# Altium schematic symbol library Pentagon.SchLib: 51 symbols
Pins are listed as number, name and electrical type; pins without a type are passive.

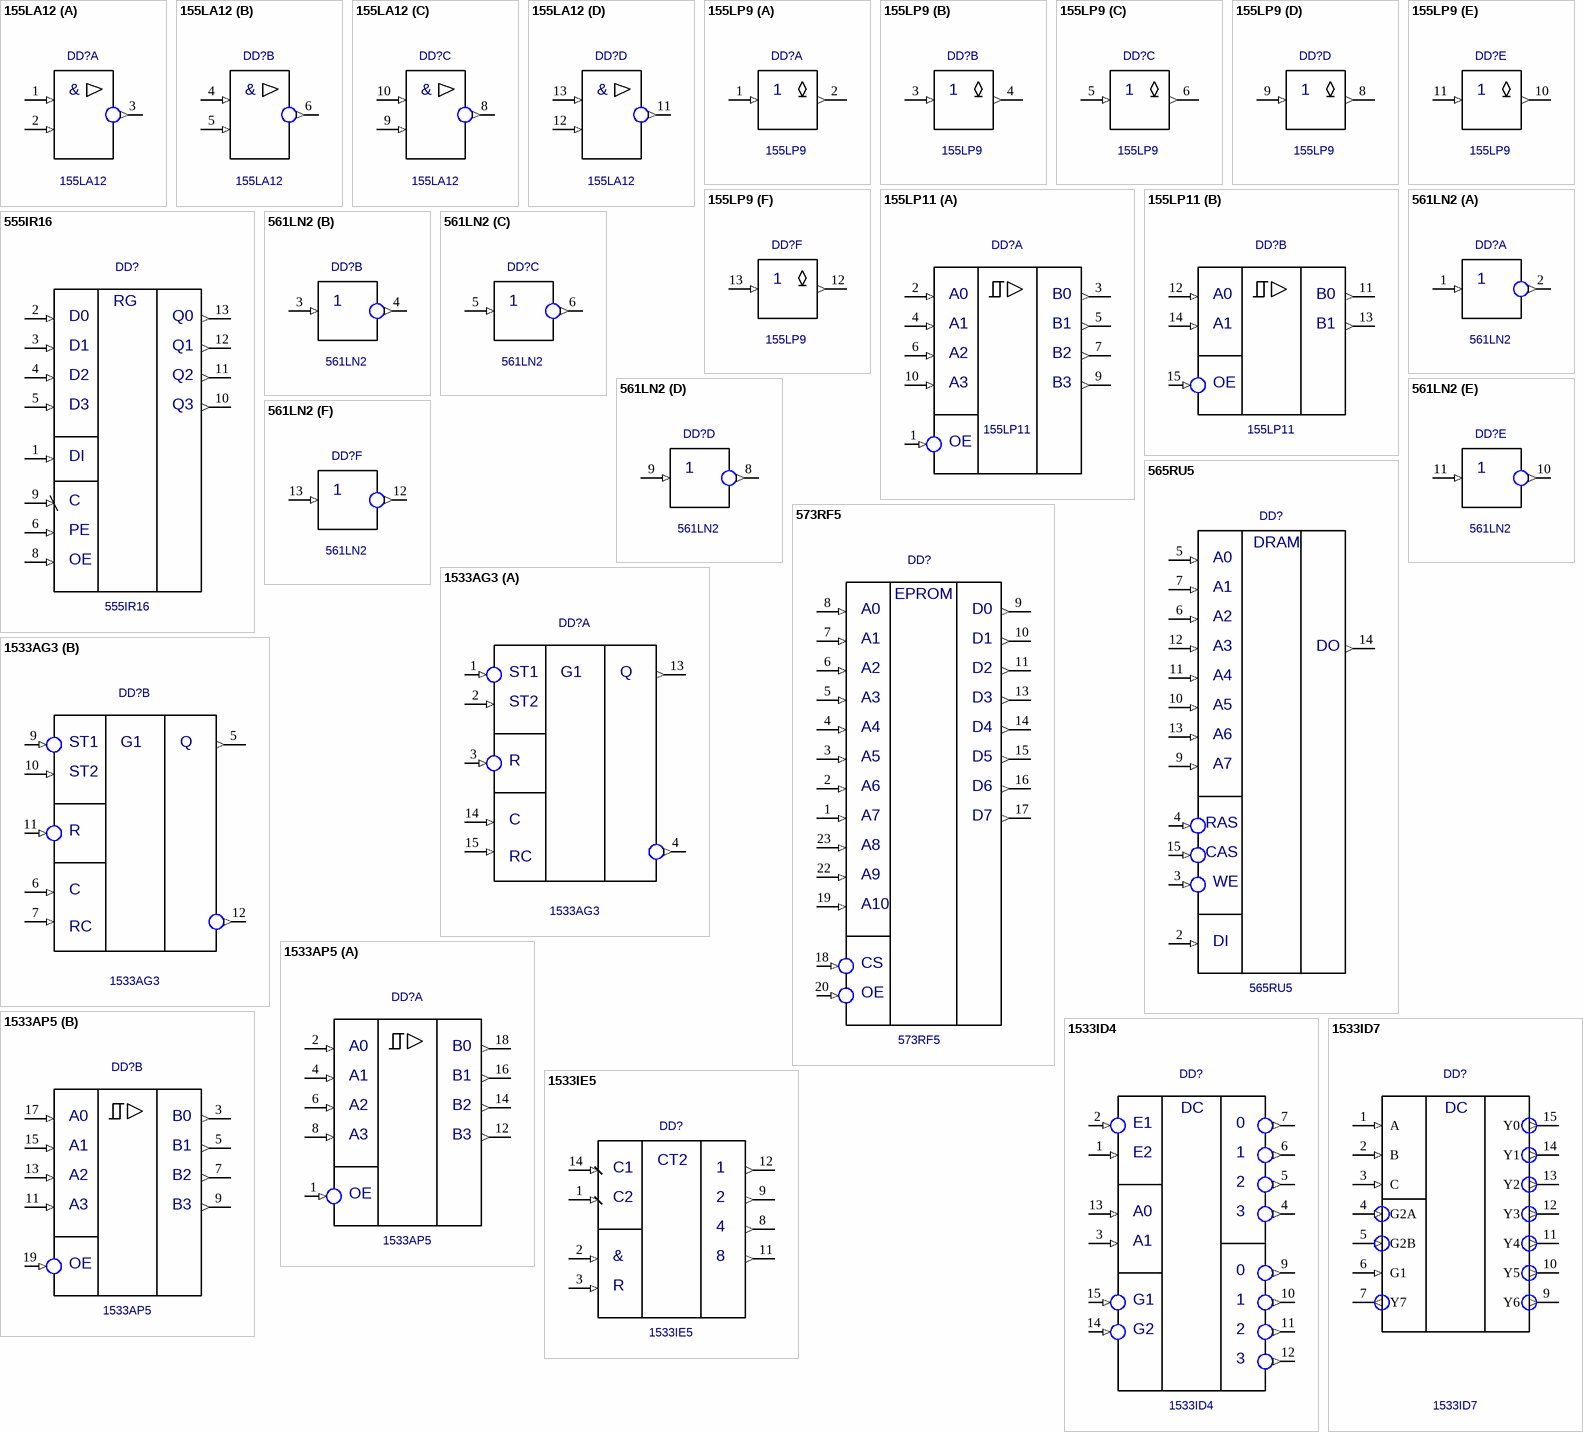
[diagram p0: symbols 155LA12 to 1533IE5]

## 155LA12
designator DD?
Value: *
footprint DIP14
pins on every part: 7 GND (power) hidden, 14 +5V (power) hidden
part A pins: 1 A (in), 2 B (in), 3 C (out)
part B pins: 4 A (in), 5 B (in), 6 C (out)
part C pins: 8 C (out), 9 B (in), 10 A (in)
part D pins: 11 C (out), 12 B (in), 13 A (in)
part A text: &
part B text: &
part C text: &
part D text: &

## 155LP9
designator DD?
Value: *
footprint DIP14
pins on every part: 7 GND (power) hidden, 14 +5V (power) hidden
part A pins: 1 A (in), 2 B (out)
part B pins: 3 A (in), 4 B (out)
part C pins: 5 A (in), 6 B (out)
part D pins: 8 B (out), 9 A (in)
part E pins: 10 B (out), 11 A (in)
part F pins: 12 B (out), 13 A (in)

## 155LP11
designator DD?
Value: *
footprint DIP16
pins on every part: 8 GND (power) hidden, 16 +5V (power) hidden
part A pins: 1 OE (in), 2 A0 (in), 3 B0 (out), 4 A1 (in), 5 B1 (out), 6 A2 (in), 7 B2 (out), 9 B3 (out), 10 A3 (in)
part B pins: 11 B10 (out), 12 A10 (in), 13 B11 (out), 14 A11 (in), 15 OE1 (in)

## 555IR16
designator DD?
Value: *
footprint DIP14
pins: 1 DI (in), 2 D0 (in), 3 D1 (in), 4 D2 (in), 5 D3 (in), 6 PE (in), 7 GND (power) hidden, 8 OE (in), 9 C (in), 10 Q3 (out), 11 Q2 (out), 12 Q1 (out), 13 Q0 (out), 14 +5V (power) hidden
text: RG

## 561LN2
designator DD?
Value: *
footprint DIP14
pins on every part: 7 GND (power) hidden, 14 +5V (power) hidden
part A pins: 1 A (in), 2 B (out)
part B pins: 3 A (in), 4 B (out)
part C pins: 5 A (in), 6 B (out)
part D pins: 8 B (out), 9 A (in)
part E pins: 10 B (out), 11 A (in)
part F pins: 12 B (out), 13 A (in)

## 565RU5
designator DD?
Value: *
footprint DIP16
pins: 1 hidden, 2 DI (in), 3 WE (in), 4 RAS (in), 5 A0 (in), 6 A2 (in), 7 A1 (in), 8 +5V (power) hidden, 9 A7 (in), 10 A5 (in), 11 A4 (in), 12 A3 (in), 13 A6 (in), 14 DO (out), 15 CAS (in), 16 GND (power) hidden
text: DRAM

## 573RF5
designator DD?
Value: *
footprint DIP24_15
pins: 1 A7 (in), 2 A6 (in), 3 A5 (in), 4 A4 (in), 5 A3 (in), 6 A2 (in), 7 A1 (in), 8 A0 (in), 9 D0 (out), 10 D1 (out), 11 D2 (out), 12 GND (power) hidden, 13 D3 (out), 14 D4 (out), 15 D5 (out), 16 D6 (out), 17 D7 (out), 18 CS (in), 19 A10 (in), 20 OE (in), 21 +5V (power) hidden, 22 A9 (in), 23 A8 (in), 24 +5V (power) hidden
text: EPROM

## 1533AG3
designator DD?
Value: *
footprint DIP16
pins on every part: 8 GND (power) hidden, 16 +5V (power) hidden
part A pins: 1 ST1 (in), 2 ST2 (in), 3 R (in), 4 Q/ (out), 13 Q (out), 14 C (in), 15 RC (in)
part B pins: 5 Q (out), 6 C (in), 7 RC (in), 9 ST1 (in), 10 ST2 (in), 11 R (in), 12 Q/ (out)
part A text: G1
part B text: G1

## 1533AP5
designator DD?
Value: *
footprint DIP20
pins on every part: 10 GND (power) hidden, 20 +5V (power) hidden
part A pins: 1 OE (in), 2 A0 (in), 4 A1 (in), 6 A2 (in), 8 A3 (in), 12 B3 (out), 14 B2 (out), 16 B1 (out), 18 B0 (out)
part B pins: 3 B0 (out), 5 B1 (out), 7 B2 (out), 9 B3 (out), 11 A3 (in), 13 A2 (in), 15 A1 (in), 17 A0 (in), 19 OE (in)

## 1533ID4
designator DD?
Value: *
footprint DIP16
pins: 1 E2 (in), 2 E1 (in), 3 A1 (in), 4 Q3 (out), 5 Q2 (out), 6 Q1 (out), 7 Q0 (out), 8 GND (power) hidden, 9 Q4 (out), 10 Q5 (out), 11 Q6 (out), 12 Q7 (out), 13 A0 (in), 14 G2 (in), 15 G1 (in), 16 +5V (power) hidden
text: DC; 0

## 1533ID7
designator DD?
Value: *
footprint DIP16
pins: 1 A (in), 2 B (in), 3 C (in), 4 G2A (in), 5 G2B (in), 6 G1 (in), 7 Y7 (out), 8 GND (power) hidden, 9 Y6 (out), 10 Y5 (out), 11 Y4 (out), 12 Y3 (out), 13 Y2 (out), 14 Y1 (out), 15 Y0 (out), 16 +5V (power) hidden
text: DC

## 1533IE5
designator DD?
Value: *
footprint DIP14
pins: 1 C2 (in), 2 & (in), 3 R (in), 4 hidden, 5 +5V (power) hidden, 6 hidden, 7 hidden, 8 4 (out), 9 2 (out), 10 GND (power) hidden, 11 8 (out), 12 1 (out), 13 hidden, 14 C1 (in)
text: CT2

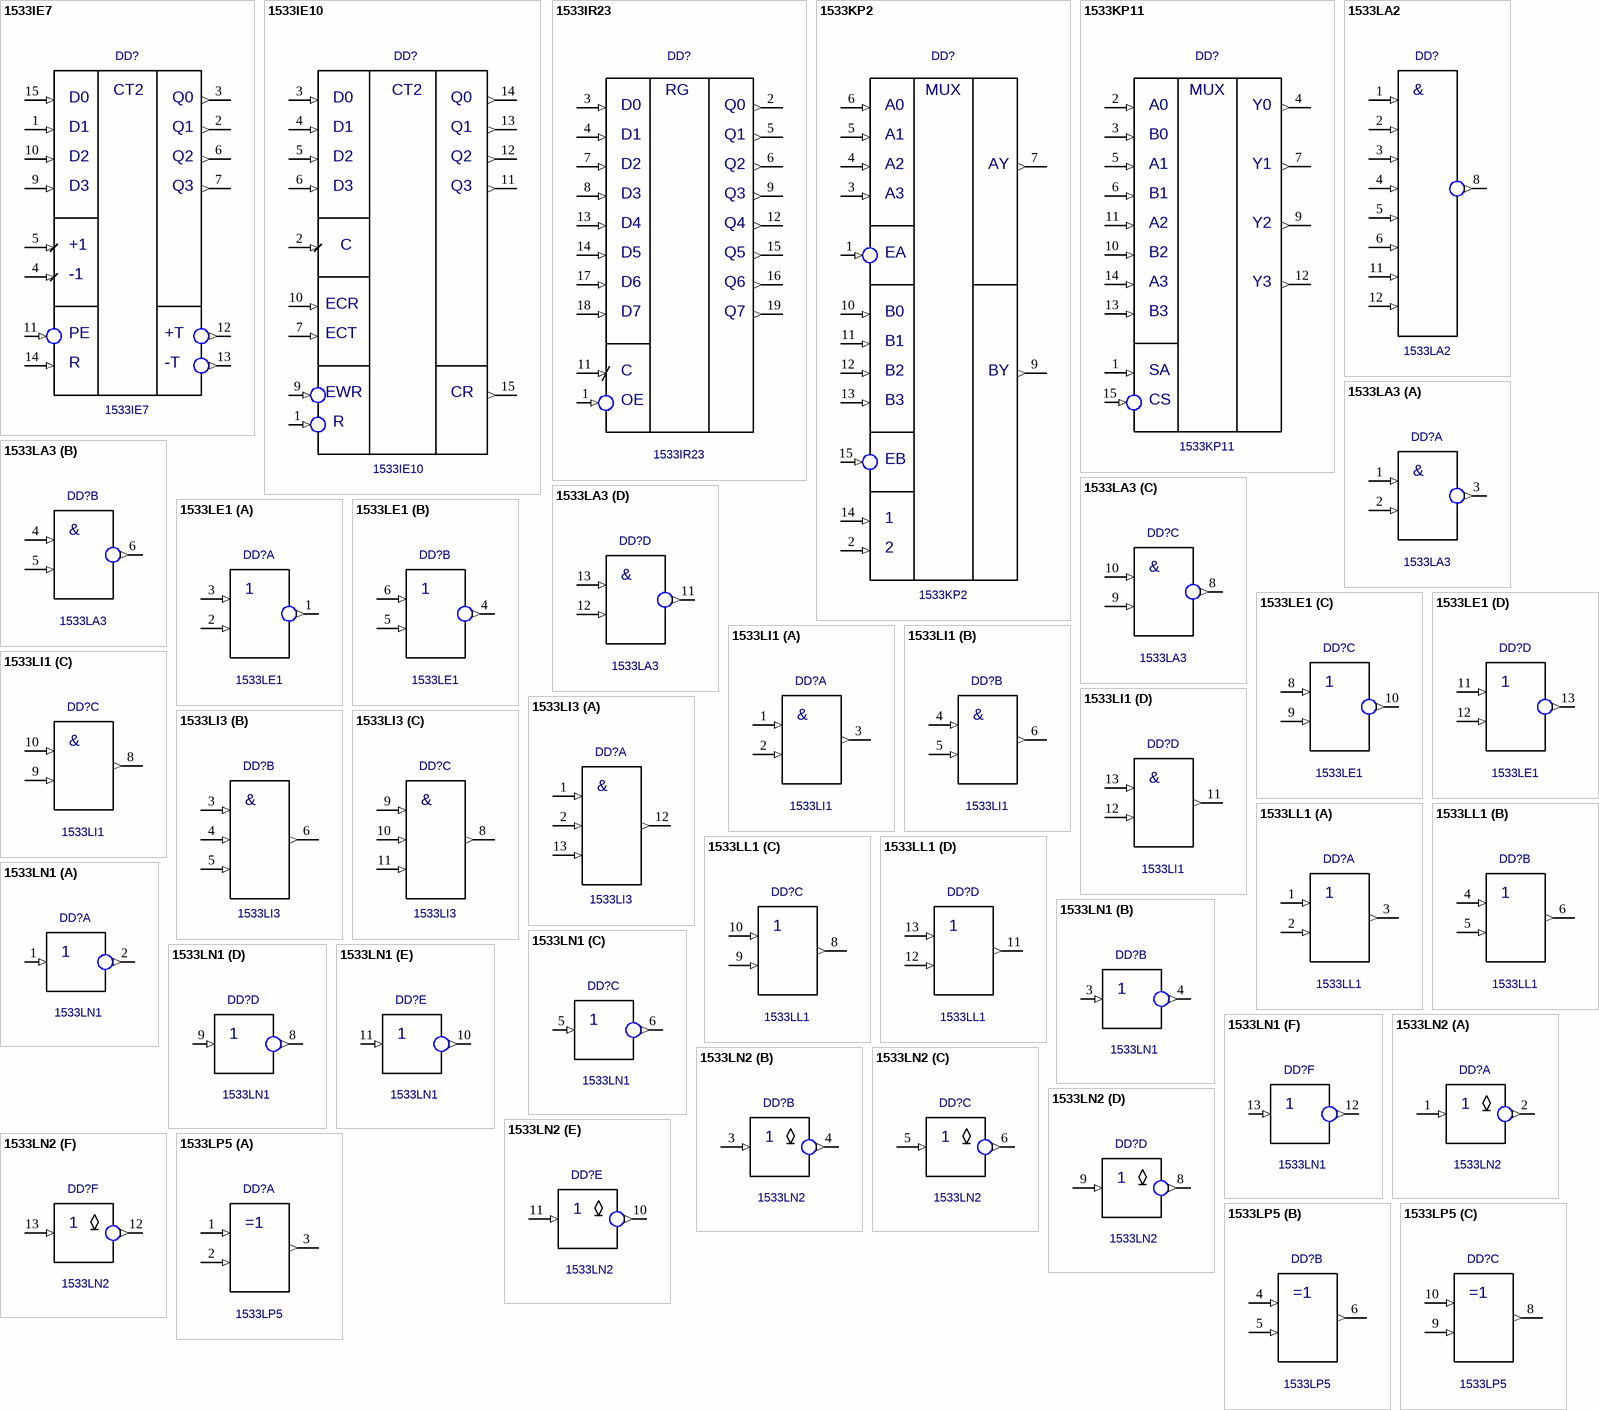
[diagram p1: symbols 1533IE7 to 1533LP5]

## 1533IE7
designator DD?
Value: *
footprint DIP16
pins: 1 D1 (in), 2 Q1 (out), 3 Q0 (out), 4 -1 (in), 5 +1 (in), 6 Q2 (out), 7 Q3 (out), 8 GND (power) hidden, 9 D3 (in), 10 D2 (in), 11 PE (in), 12 +T (out), 13 -T (out), 14 R (in), 15 D0 (in), 16 +5V (power) hidden
text: CT2

## 1533IE10
designator DD?
Value: *
footprint DIP16
pins: 1 R (in), 2 C (in), 3 D0 (in), 4 D1 (in), 5 D2 (in), 6 D3 (in), 7 ECT (in), 8 GND (power) hidden, 9 EWR (in), 10 ECR (in), 11 Q3 (out), 12 Q2 (out), 13 Q1 (out), 14 Q0 (out), 15 CR (out), 16 +5V (power) hidden
text: CT2

## 1533IR23
designator DD?
Value: *
footprint DIP20
pins: 1 OE (in), 2 Q0 (out), 3 D0 (in), 4 D1 (in), 5 Q1 (out), 6 Q2 (out), 7 D2 (in), 8 D3 (in), 9 Q3 (out), 10 GND (power) hidden, 11 C (in), 12 Q4 (out), 13 D4 (in), 14 D5 (in), 15 Q5 (out), 16 Q6 (out), 17 D6 (in), 18 D7 (in), 19 Q7 (out), 20 +5V (power) hidden
text: RG

## 1533KP2
designator DD?
Value: *
footprint DIP16
pins: 1 EA (in), 2 (in), 3 A3 (in), 4 A2 (in), 5 A1 (in), 6 A0 (in), 7 AY (out), 8 GND (power) hidden, 9 BY (out), 10 B0 (in), 11 B1 (in), 12 B2 (in), 13 B3 (in), 14 1 (in), 15 EB (in), 16 +5V (power) hidden
text: MUX

## 1533KP11
designator DD?
Value: *
footprint DIP16
pins: 1 SA (in), 2 A0 (in), 3 B0 (in), 4 Y0 (out), 5 A1 (in), 6 B1 (in), 7 Y1 (out), 8 GND (power) hidden, 9 Y2 (out), 10 B2 (in), 11 A2 (in), 12 Y3 (out), 13 B3 (in), 14 A3 (in), 15 CS (in), 16 +5V (power) hidden
text: MUX

## 1533LA2
designator DD?
Value: *
footprint DIP14
pins: 1 A (in), 2 B (in), 3 C (in), 4 D (in), 5 E (in), 6 F (in), 7 GND (power) hidden, 8 Y (out), 9 hidden, 10 hidden, 11 G (in), 12 H (in), 13 hidden, 14 +5V (power) hidden
text: &

## 1533LA3
designator DD?
Value: *
footprint DIP14
pins on every part: 7 GND (power) hidden, 14 +5V (power) hidden
part A pins: 1 A (in), 2 B (in), 3 C (out)
part B pins: 4 A (in), 5 B (in), 6 C (out)
part C pins: 8 C (out), 9 B (in), 10 A (in)
part D pins: 11 C (out), 12 B (in), 13 A (in)
part A text: &
part B text: &
part C text: &
part D text: &

## 1533LE1
designator DD?
Value: *
footprint DIP14
pins on every part: 7 GND (power) hidden, 14 +5V (power) hidden
part A pins: 1 C (out), 2 B (in), 3 A (in)
part B pins: 4 C (out), 5 B (in), 6 A (in)
part C pins: 8 A (in), 9 B (in), 10 C (out)
part D pins: 11 A (in), 12 B (in), 13 C (out)

## 1533LI1
designator DD?
Value: *
footprint DIP14
pins on every part: 7 GND (power) hidden, 14 +5V (power) hidden
part A pins: 1 A (in), 2 B (in), 3 C (out)
part B pins: 4 A (in), 5 B (in), 6 C (out)
part C pins: 8 C (out), 9 B (in), 10 A (in)
part D pins: 11 C (out), 12 B (in), 13 A (in)
part A text: &
part B text: &
part C text: &
part D text: &

## 1533LI3
designator DD?
Value: *
footprint DIP14
pins on every part: 7 GND (power) hidden, 14 +5V (power) hidden
part A pins: 1 A (in), 2 B (in), 12 D (out), 13 C (in)
part B pins: 3 A (in), 4 B (in), 5 C (in), 6 D (out)
part C pins: 8 D (out), 9 A (in), 10 B (in), 11 C (in)
part A text: &
part B text: &
part C text: &

## 1533LL1
designator DD?
Value: *
footprint DIP14
pins on every part: 7 GND (power) hidden, 14 +5V (power) hidden
part A pins: 1 A (in), 2 B (in), 3 C (out)
part B pins: 4 A (in), 5 B (in), 6 C (out)
part C pins: 8 C (out), 9 B (in), 10 A (in)
part D pins: 11 C (out), 12 B (in), 13 A (in)

## 1533LN1
designator DD?
Value: *
footprint DIP14
pins on every part: 7 GND (power) hidden, 14 +5V (power) hidden
part A pins: 1 A (in), 2 B (out)
part B pins: 3 A (in), 4 B (out)
part C pins: 5 A (in), 6 B (out)
part D pins: 8 B (out), 9 A (in)
part E pins: 10 B (out), 11 A (in)
part F pins: 12 B (out), 13 A (in)

## 1533LN2
designator DD?
Value: *
footprint DIP14
pins on every part: 7 GND (power) hidden, 14 +5V (power) hidden
part A pins: 1 A (in), 2 B (out)
part B pins: 3 A (in), 4 B (out)
part C pins: 5 A (in), 6 B (out)
part D pins: 8 B (out), 9 A (in)
part E pins: 10 B (out), 11 A (in)
part F pins: 12 B (out), 13 A (in)

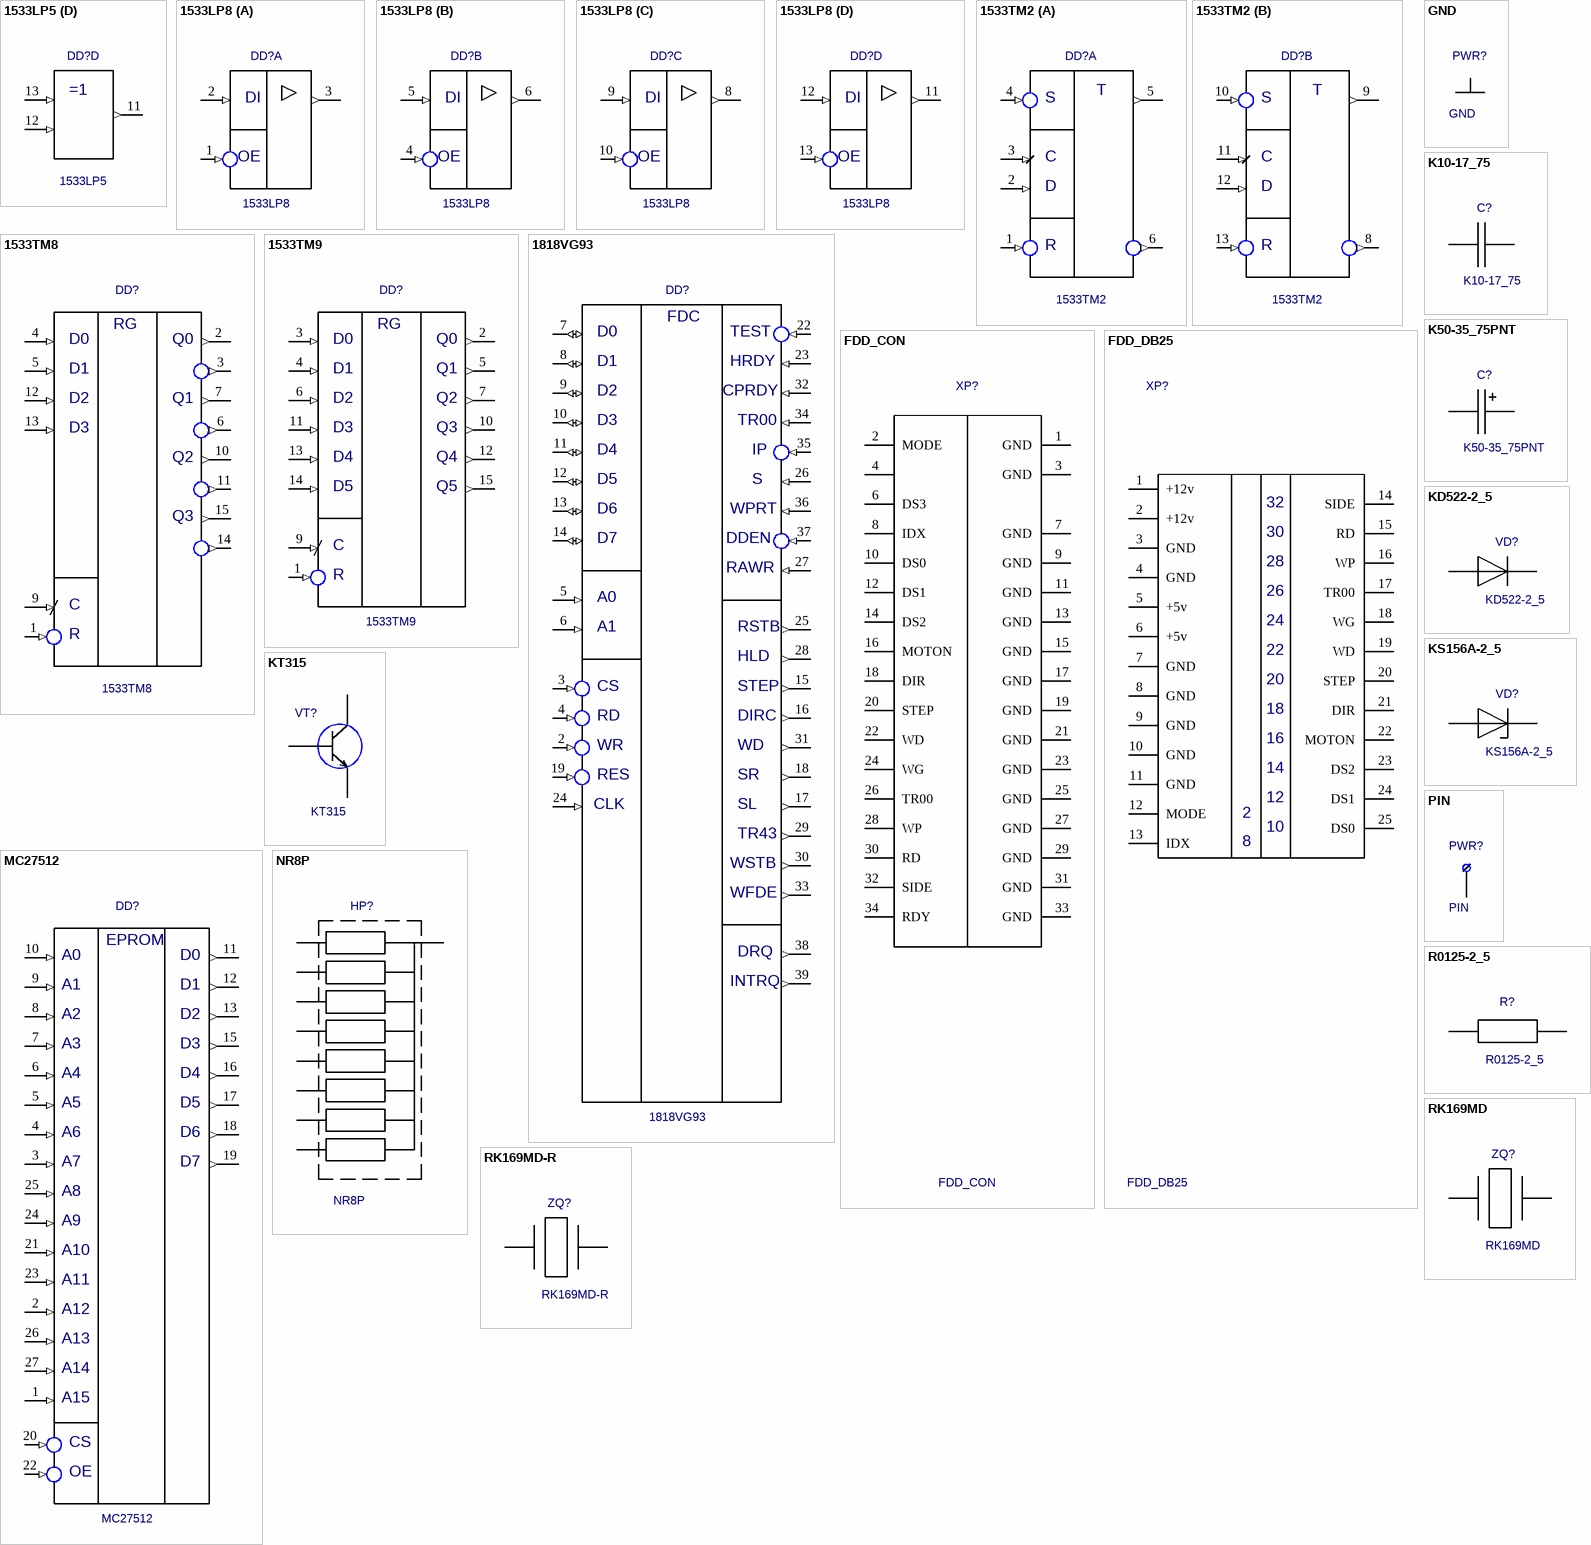
[diagram p2: symbols 1533LP5 to RK169MD-R]

## 1533LP5
designator DD?
Value: *
footprint DIP14
pins on every part: 7 GND (power) hidden, 14 +5V (power) hidden
part A pins: 1 A (in), 2 B (in), 3 C (out)
part B pins: 4 A (in), 5 B (in), 6 C (out)
part C pins: 8 C (out), 9 B (in), 10 A (in)
part D pins: 11 C (out), 12 B (in), 13 A (in)

## 1533LP8
designator DD?
Value: *
footprint DIP14
pins on every part: 7 GND (power) hidden, 14 +5V (power) hidden
part A pins: 1 B (in), 2 A (in), 3 C (out)
part B pins: 4 B (in), 5 A (in), 6 C (out)
part C pins: 8 C (out), 9 A (in), 10 B (in)
part D pins: 11 C (out), 12 A (in), 13 B (in)
part A text: DI; OE
part B text: DI; OE
part C text: DI; OE
part D text: DI; OE

## 1533TM2
designator DD?
Value: *
footprint DIP14
pins on every part: 7 GND (power) hidden, 14 +5V (power) hidden
part A pins: 1 R (in), 2 D (in), 3 C (in), 4 S (in), 5 Q (out), 6 Q/ (out)
part B pins: 8 Q/ (out), 9 Q (out), 10 S (in), 11 C (in), 12 D (in), 13 R (in)
part A text: T
part B text: T

## 1533TM8
designator DD?
Value: *
footprint DIP16
pins: 1 R (in), 2 Q0 (out), 3 Q0/ (out), 4 D0 (in), 5 D1 (in), 6 Q1/ (out), 7 Q1 (out), 8 GND (power) hidden, 9 C (in), 10 Q2 (out), 11 Q2/ (out), 12 D2 (in), 13 D3 (in), 14 Q4/ (out), 15 Q4 (out), 16 +5V (power) hidden
text: RG; Q3

## 1533TM9
designator DD?
Value: *
footprint DIP16
pins: 1 R (in), 2 Q0 (out), 3 D0 (in), 4 D1 (in), 5 Q1 (out), 6 D2 (in), 7 Q2 (out), 8 GND (power) hidden, 9 C (in), 10 Q3 (out), 11 D3 (in), 12 Q4 (out), 13 D4 (in), 14 D5 (in), 15 Q5 (out), 16 +5V (power) hidden
text: RG

## 1818VG93
designator DD?
Value: *
footprint DIP40_15
pins: 1 hidden, 2 WR (in), 3 CS (in), 4 RD (in), 5 A0 (in), 6 A1 (in), 7 D0 (io), 8 D1 (io), 9 D2 (io), 10 D3 (io), 11 D4 (io), 12 D5 (io), 13 D6 (io), 14 D7 (io), 15 STEP (out), 16 DIRC (out), 17 SL (out), 18 SR (out), 19 RES (in), 20 GND (power) hidden, 21 +5V (power) hidden, 22 TEST (in), 23 HRDY (in), 24 CLK (in), 25 RSTB (out), 26 S (in), 27 RAWR (in), 28 HLD (out), 29 TR43 (out), 30 WSTB (out), 31 WD (out), 32 CPRDY (in), 33 WFDE (out), 34 TR00 (in), 35 IP (in), 36 WPRT (in), 37 DDEN (in), 38 DRQ (out), 39 INTRQ (out), 40 +12V (power) hidden
text: FDC

## FDD_CON
designator XP?
Value: *
footprint FDD_CON_Male
pins: 1 GND, 2 MODE, 3 GND, 4, 6 DS3, 7 GND, 8 IDX, 9 GND, 10 DS0, 11 GND, 12 DS1, 13 GND, 14 DS2, 15 GND, 16 MOTON, 17 GND, 18 DIR, 19 GND, 20 STEP, 21 GND, 22 WD, 23 GND, 24 WG, 25 GND, 26 TR00, 27 GND, 28 WP, 29 GND, 30 RD, 31 GND, 32 SIDE, 33 GND, 34 RDY

## FDD_DB25
designator XP?
Value: *
footprint DSUB1.385-2H25A (Connector; D Subminiature; 25 Position; Right Angle; Pitch 1.385 mm)
pins: 1 +12v, 2 +12v, 3 GND, 4 GND, 5 +5v, 6 +5v, 7 GND, 8 GND, 9 GND, 10 GND, 11 GND, 12 MODE, 13 IDX, 14 SIDE, 15 RD, 16 WP, 17 TR00, 18 WG, 19 WD, 20 STEP, 21 DIR, 22 MOTON, 23 DS2, 24 DS1, 25 DS0, 26 hidden, 27 hidden, 28 hidden, 29 hidden, 30 hidden, 31 hidden, 32 hidden, 33 hidden, 34 hidden, 35 hidden, 36 hidden, 37 hidden, 38 hidden, 39 hidden, 40 hidden, 41 hidden, 42 hidden, 43 hidden, 44 hidden, 45 hidden, 46 hidden, 47 hidden, 48 hidden, 49 hidden, 50 hidden

## GND
designator PWR?
Value: *
pins: 1 GND (power)

## K10-17_75
designator C?
Value: *
footprint K10-17_75
pins: 1 A, 2 B

## K50-35_75PNT
designator C?
Value: *
footprint K50-35_75PNT
pins: 1 A, 2 B

## KD522-2_5
designator VD?
Value: *
footprint KD522-2_5
pins: 1 A, 2 B

## KS156A-2_5
designator VD?
Value: *
footprint KS156A-2_5
pins: 1 A, 2 B

## KT315
designator VT?
Value: *
footprint KT315
pins: 1 E, 2 C, 3 B

## MC27512
designator DD?
Value: *
footprint DIP28_15
pins: 1 A15 (in), 2 A12 (in), 3 A7 (in), 4 A6 (in), 5 A5 (in), 6 A4 (in), 7 A3 (in), 8 A2 (in), 9 A1 (in), 10 A0 (in), 11 D0 (out), 12 D1 (out), 13 D2 (out), 14 GND (power) hidden, 15 D3 (out), 16 D4 (out), 17 D5 (out), 18 D6 (out), 19 D7 (out), 20 CS (in), 21 A10 (in), 22 OE (in), 23 A11 (in), 24 A9 (in), 25 A8 (in), 26 A13 (in), 27 A14 (in), 28 +5V (power) hidden
text: EPROM

## NR8P
designator HP?
Value: *
footprint NR8P
pins: 1 A, 2 B, 3 C, 4 D, 5 I, 6 E, 7 F, 8 G, 9 H

## PIN
designator PWR?
Value: *
pins: 1 PIN (power)

## R0125-2_5
designator R?
Value: *
footprint R0125-2_5
pins: 1 A, 2 B

## RK169MD
designator ZQ?
Value: *
footprint RK169MD
pins: 1 A, 2 B

## RK169MD-R
designator ZQ?
Value: *
footprint RK169MD-R
pins: 1 A, 2 B

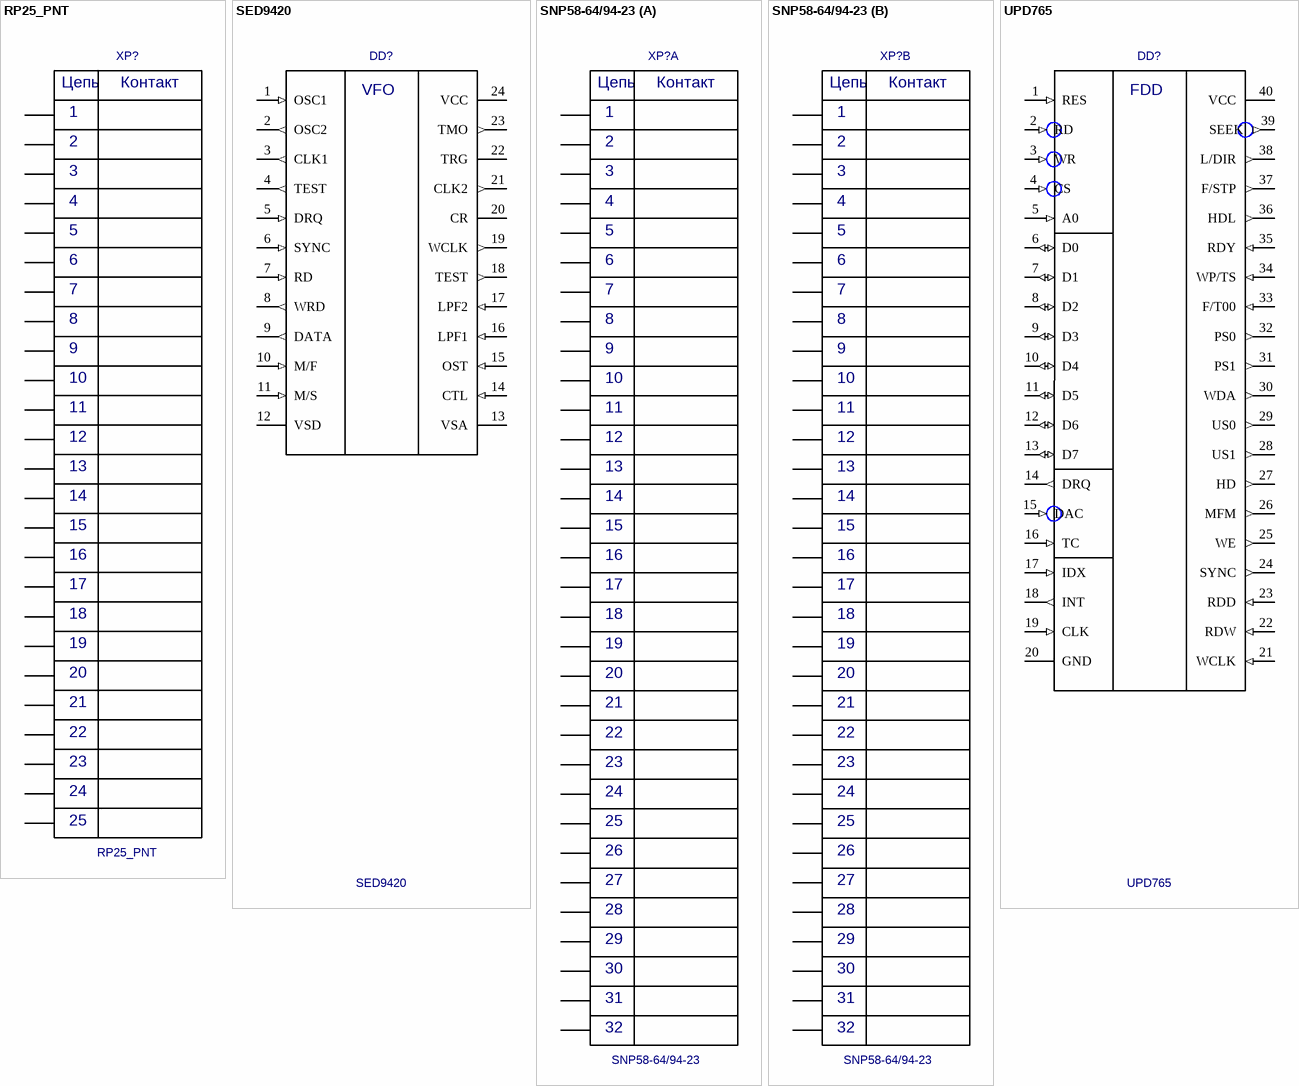
[diagram p3: symbols RP25_PNT to UPD765]

## RP25_PNT
designator XP?
Value: *
footprint RP25_PNT
pins: 1, 2, 3, 4, 5, 6, 7, 8, 9, 10, 11, 12, 13, 14, 15, 16, 17, 18, 19, 20, 21, 22, 23, 24, 25, 26 hidden, 27 hidden, 28 hidden, 29 hidden, 30 hidden, 31 hidden, 32 hidden, 33 hidden, 34 hidden, 35 hidden, 36 hidden, 37 hidden, 38 hidden, 39 hidden, 40 hidden, 41 hidden, 42 hidden, 43 hidden, 44 hidden, 45 hidden, 46 hidden, 47 hidden, 48 hidden, 49 hidden, 50 hidden
text: Цепь; Контакт

## SED9420
designator DD?
Value: *
footprint DIP24_15
pins: 1 OSC1 (in), 2 OSC2 (out), 3 CLK1 (out), 4 TEST (out), 5 DRQ (in), 6 SYNC (in), 7 RD (in), 8 WRD (out), 9 DATA (out), 10 M/F (in), 11 M/S (in), 12 VSD (power), 13 VSA (power), 14 CTL (in), 15 OST (in), 16 LPF1 (in), 17 LPF2 (in), 18 TEST (out), 19 WCLK (out), 20 CR, 21 CLK2 (out), 22 TRG, 23 TMO (out), 24 VCC (power)
text: VFO

## SNP58-64/94-23
designator XP?
Value: *
footprint SNP58-64/94-23
pins on every part: 65 hidden, 66 hidden
part A pins: 1 A1, 2 A2, 3 A3, 4 A4, 5 A5, 6 A6, 7 A7, 8 A8, 9 A9, 10 A10, 11 A11, 12 A12, 13 A13, 14 A14, 15 A15, 16 A16, 17 A17, 18 A18, 19 A19, 20 A20, 21 A21, 22 A22, 23 A23, 24 A24, 25 A25, 26 A26, 27 A27, 28 A28, 29 A29, 30 A30, 31 A31, 32 A32
part B pins: 33 B1, 34 B2, 35 B3, 36 B4, 37 B5, 38 B6, 39 B7, 40 B8, 41 B9, 42 B10, 43 B11, 44 B12, 45 B13, 46 B14, 47 B15, 48 B16, 49 B17, 50 B18, 51 B19, 52 B20, 53 B21, 54 B22, 55 B23, 56 B24, 57 B25, 58 B26, 59 B27, 60 B28, 61 B29, 62 B30, 63 B31, 64 B32
part A text: Цепь; Контакт
part B text: Цепь; Контакт

## UPD765
designator DD?
Value: *
footprint DIP40_15
pins: 1 RES (in), 2 RD (in), 3 WR (in), 4 CS (in), 5 A0 (in), 6 D0 (io), 7 D1 (io), 8 D2 (io), 9 D3 (io), 10 D4 (io), 11 D5 (io), 12 D6 (io), 13 D7 (io), 14 DRQ (out), 15 DAC (in), 16 TC (in), 17 IDX (in), 18 INT (out), 19 CLK (in), 20 GND (power), 21 WCLK (in), 22 RDW (in), 23 RDD (in), 24 SYNC (out), 25 WE (out), 26 MFM (out), 27 HD (out), 28 US1 (out), 29 US0 (out), 30 WDA (out), 31 PS1 (out), 32 PS0 (out), 33 F/T00 (in), 34 WP/TS (in), 35 RDY (in), 36 HDL (out), 37 F/STP (out), 38 L/DIR (out), 39 SEEK (out), 40 VCC (power)
text: FDD

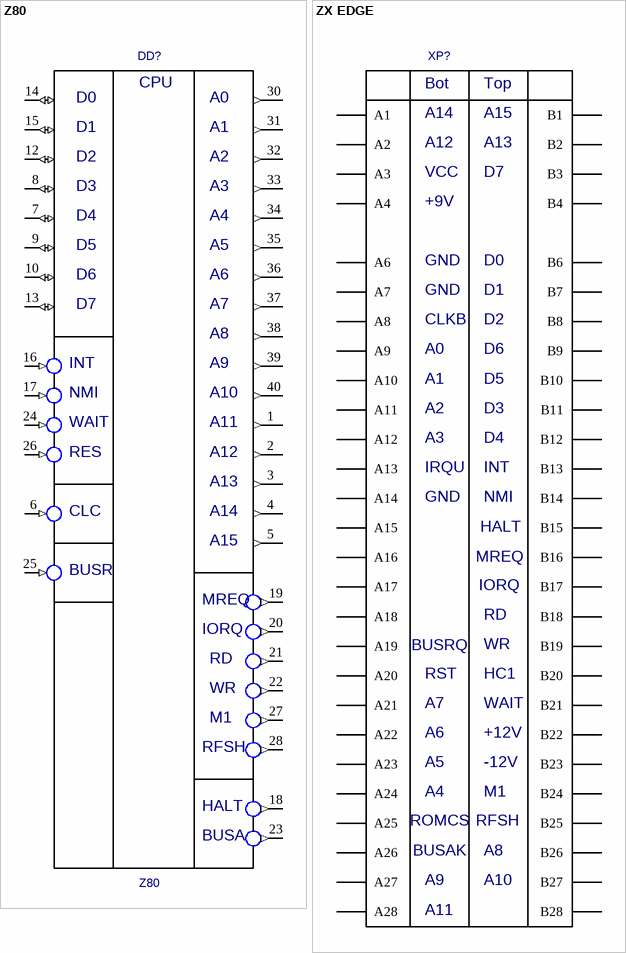
[diagram p4: symbols Z80 to ZX EDGE]

## Z80
designator DD?
Value: *
footprint DIP40_15
pins: 1 A11 (out), 2 A12 (out), 3 A13 (out), 4 A14 (out), 5 A15 (out), 6 CLC (in), 7 D4 (io), 8 D3 (io), 9 D5 (io), 10 D6 (io), 11 +5V (power) hidden, 12 D2 (io), 13 D7 (io), 14 D0 (io), 15 D1 (io), 16 INT (in), 17 NMI (in), 18 HALT (out), 19 MREQ (out), 20 IORQ (out), 21 RD (out), 22 WR (out), 23 BUSA (out), 24 WAIT (in), 25 BUSR (in), 26 RES (in), 27 M1 (out), 28 RFSH (out), 29 GND (power) hidden, 30 A0 (out), 31 A1 (out), 32 A2 (out), 33 A3 (out), 34 A4 (out), 35 A5 (out), 36 A6 (out), 37 A7 (out), 38 A8 (out), 39 A9 (out), 40 A10 (out)
text: CPU

## ZX EDGE
designator XP?  (value not drawn)
Value: *
footprint ZX_EDGE
footprint ZX_EDGE_Holes
pins: 1 A1, 2 A2, 3 A3 (power), 4 A4, 6 A6 (power), 7 A7 (power), 8 A8, 9 A9, 10 A10, 11 A11, 12 A12, 13 A13, 14 A14 (power), 15 A15, 16 A16, 17 A17, 18 A18, 19 A19, 20 A20, 21 A21, 22 A22, 23 A23, 24 A24, 25 A25, 26 A26, 27 A27, 28 A28, 29 B1, 30 B2, 31 B3, 32 B4, 34 B6, 35 B7, 36 B8, 37 B9, 38 B10, 39 B11, 40 B12, 41 B13, 42 B14, 43 B15, 44 B16, 45 B17, 46 B18, 47 B19, 48 B20, 49 B21, 50 B22, 51 B23, 52 B24, 53 B25, 54 B26, 55 B27, 56 B28
text: Bot; Top; VCC; D7; +9V; GND; D0; D1; CLKB; D2; A0; D6; D5; D3; D4; IRQU; INT; NMI; HALT; MREQ; IORQ; RD; BUSRQ; WR; RST; HC1; WAIT; +12V; A5; -12V; M1; ROMCS; RFSH; BUSAK